# Altium schematic symbol library V_1.SchLib: 4 symbols
Pins are listed as number, name and electrical type; pins without a type are passive.

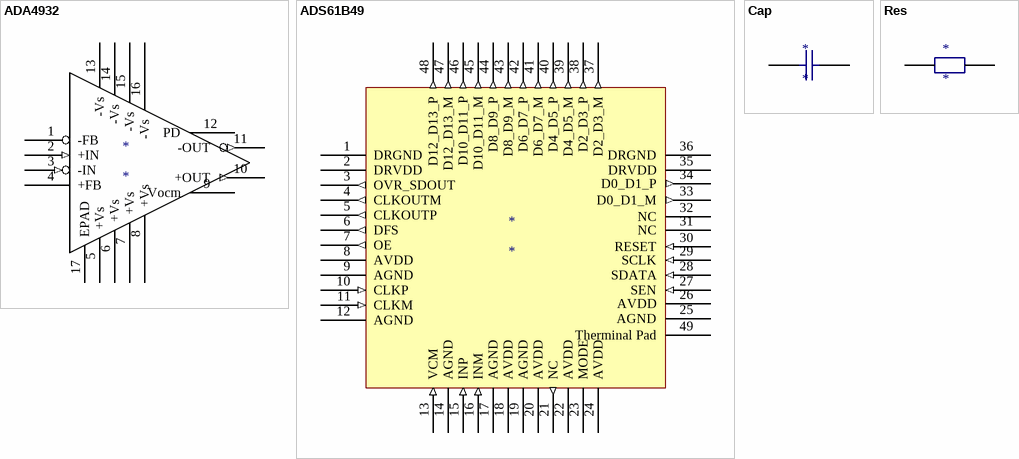
[diagram p0: symbols ADA4932 to Res]

## ADA4932
designator *
Value: *
footprint ADA4932
pins: 1 -FB, 2 +IN (in), 3 -IN (in), 4 +FB, 5 +Vs (power), 6 +Vs (power), 7 +Vs (power), 8 +Vs (power), 9 Vocm (power), 10 +OUT (out), 11 -OUT (out), 12 PD, 13 -Vs (power), 14 -Vs (power), 15 -Vs (power), 16 -Vs (power), 17 EPAD (power)

## ADS61B49
designator *
Value: *
footprint ADS61B49
pins: 1 DRGND (power), 2 DRVDD (power), 3 OVR_SDOUT (out), 4 CLKOUTM (out), 5 CLKOUTP (out), 6 DFS (out), 7 OE (out), 8 AVDD (power), 9 AGND (power), 10 CLKP (in), 11 CLKM (in), 12 AGND (power), 13 VCM (in), 14 AGND (power), 15 INP (in), 16 INM (in), 17 AGND (power), 18 AVDD (power), 19 AGND (power), 20 AVDD (power), 21 NC (out), 22 AVDD (power), 23 MODE, 24 AVDD (power), 25 AGND (power), 26 AVDD (power), 27 SEN (in), 28 SDATA (in), 29 SCLK (in), 30 RESET (in), 31 NC, 32 NC, 33 D0_D1_M (out), 34 D0_D1_P (out), 35 DRVDD (power), 36 DRGND (power), 37 D2_D3_M (out), 38 D2_D3_P (out), 39 D4_D5_M (out), 40 D4_D5_P (out), 41 D6_D7_M (out), 42 D6_D7_P (out), 43 D8_D9_M (out), 44 D8_D9_P (out), 45 D10_D11_M (out), 46 D10_D11_P (out), 47 D12_D13_M (out), 48 D12_D13_P (out), 49 Therminal Pad (power)

## Cap
designator *
Value: *
footprint Cap0805
pins: 1, 2

## Res
designator *
Value: *
footprint Res0805
pins: 1, 2